# Altium footprint library D-PAK.PcbLib: 27 footprints (part 2 of 2)
Each footprint in its own frame and in the unit in brackets; x right, y up, seen from the top. Pads: shape width x height; smd on the part's side, far side on the other; paste and mask are expansions set on the pad; w line width, h text height; cw(c..) or ccw(c..) is an arc to the next point about the centre after c.
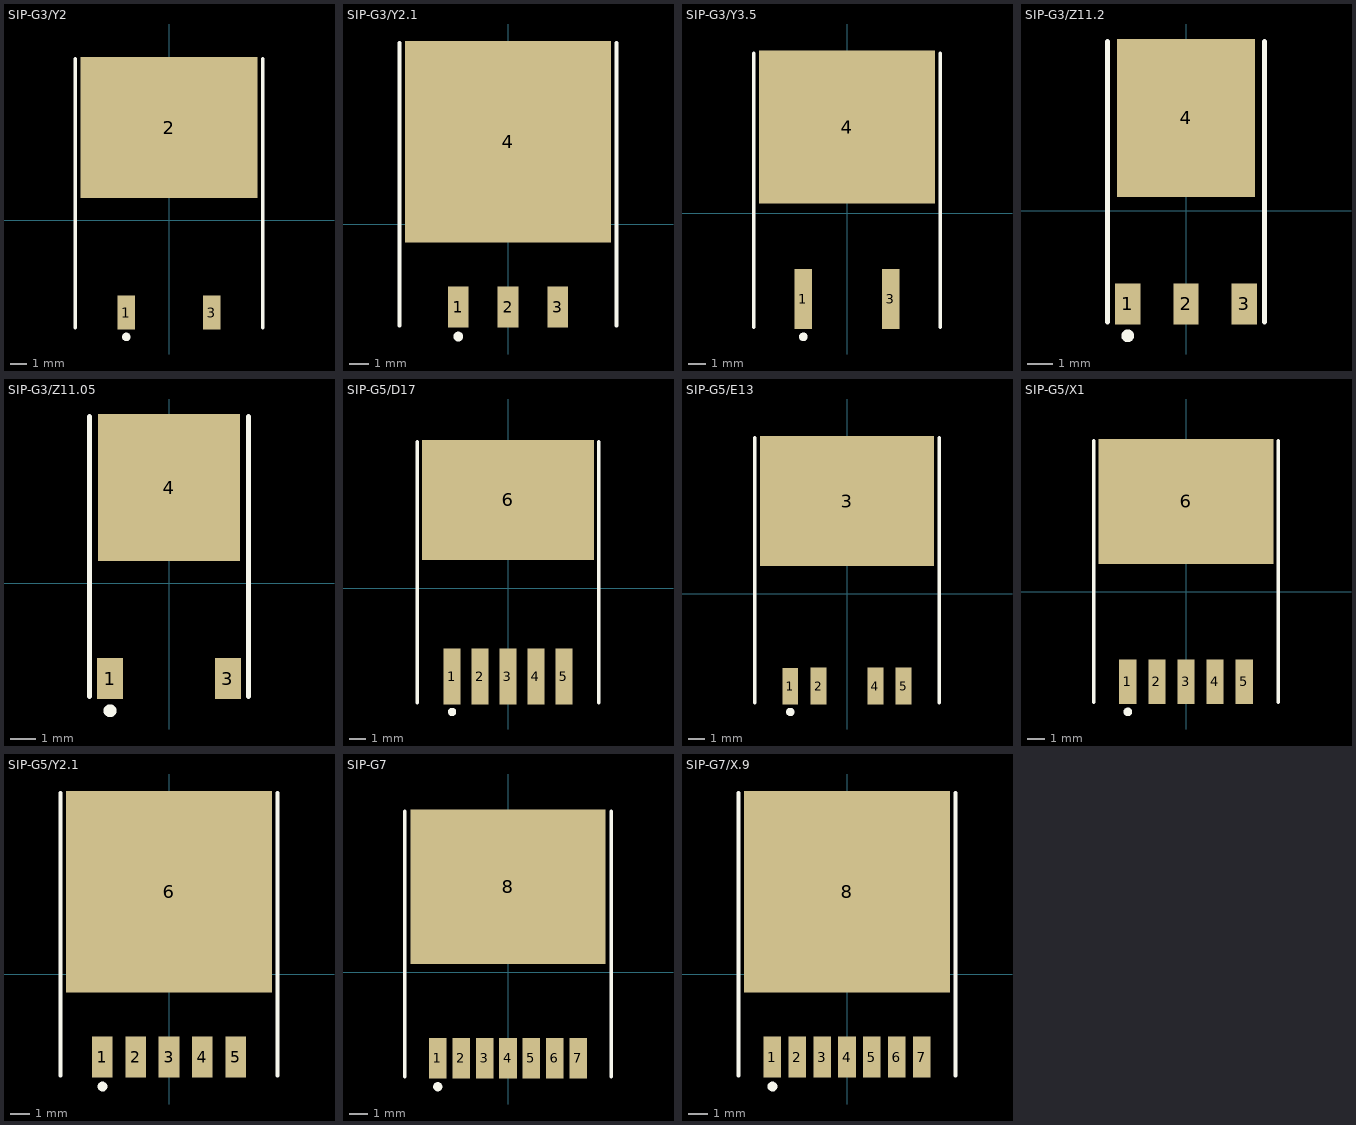
[diagram p1: the footprints below, top view; thin cyan lines are the x and y axes]

## SIP-G3/Y2 [mm] "D2-PAK/TO-263-AB; 3 Leads (1 Cropped); Body 15.5 (inc. leads) x 10.5 mm (LxW max)"
height 4.69
pads (3):
  rect 1.05x2 smd: 1(-2.54,-5.5) 3(2.54,-5.5)
  rect 10.55x8.4 smd: 2(0,5.5)
Top Overlay:
  circle w0.25: c-2.54,-6.95 r0.125
  lines w0.2: -5.575,-6.4 -5.575,9.6 ; 5.575,-6.4 5.575,9.6

## SIP-G3/Y2.1 [mm] "D2-PAK; 3 Leads; Body 14.4 (inc. leads) x 10.4 mm (LxW max)"
height 4.65
pads (4):
  rect 1.05x2.1 smd: 1(-2.54,-4.225) 2(0,-4.225) 3(2.54,-4.225)
  rect 10.5x10.3 smd: 4(0,4.225)
Top Overlay:
  circle w0.25: c-2.54,-5.725 r0.125
  lines w0.2: -5.55,-5.175 -5.55,9.275 ; 5.55,-5.175 5.55,9.275

## SIP-G3/Y3.5 [mm] "D2-PAK/TO-263-AB; 3 Leads (1 Cropped); Body 15.4 (inc. leads) x 10.3 mm (LxW max)"
height 4.5
pads (3):
  rect 1x3.5 smd: 1(-2.54,-4.975) 3(2.54,-4.975)
  rect 10.25x8.9 smd: 4(0,5.023)
Top Overlay:
  circle w0.25: c-2.54,-7.175 r0.125
  lines w0.2: -5.425,-6.625 -5.425,9.325 ; 5.425,-6.625 5.425,9.325

## SIP-G3/Z11.2 [mm] "D-PAK/TO-252-AA; 3 Leads (1 Cropped); Body 10.4 (inc. leads) x 6.7 mm (LxW max)"
height 2.38
pads (4):
  rect 1x1.6 smd: 1(-2.285,-3.65) 2(0,-3.65) 3(2.285,-3.65)
  rect 5.4x6.2 smd: 4(0,3.65)
Top Overlay:
  circle w0.25: c-2.285,-4.9 r0.125
  lines w0.2: -3.085,-4.35 -3.085,6.65 ; 3.085,-4.35 3.085,6.65

## SIP-G3/Z11.05 [mm] "D-PAK/TO-252-AA; 3 Leads (1 Cropped); Body 10.3 (inc. leads) x 6.7 mm (LxW max)"
height 2.38
pads (3):
  rect 1x1.6 smd: 1(-2.285,-3.7) 3(2.285,-3.7)
  rect 5.5x5.7 smd: 4(0,3.7)
Top Overlay:
  circle w0.25: c-2.285,-4.95 r0.125
  lines w0.2: -3.085,-4.4 -3.085,6.45 ; 3.085,-4.4 3.085,6.45

## SIP-G5/D17 [mm] "D2-PAK; 5 Leads; Body 15.4 (inc. leads) x 10.4 mm (LxW max)"
height 4.65
pads (6):
  rect 1.05x3.4 smd: 1(-3.4,-5.375) 2(-1.7,-5.375) 3(0,-5.375) 4(1.7,-5.375) 5(3.4,-5.375)
  rect 10.45x7.3 smd: 6(0,5.375)
Top Overlay:
  circle w0.25: c-3.4,-7.525 r0.125
  lines w0.2: -5.525,-6.975 -5.525,8.925 ; 5.525,-6.975 5.525,8.925

## SIP-G5/E13 [mm] "D2-PAK; 5 Leads (1 Cropped); Body 15.3 (inc. leads) x 10.4 mm (LxW max)"
height 4.55
pads (5):
  rect 0.95x2.2 smd: 1(-3.4,-5.55) 2(-1.7,-5.55) 4(1.7,-5.55) 5(3.4,-5.55)
  rect 10.45x7.8 smd: 3(0,5.55)
Top Overlay:
  circle w0.25: c-3.4,-7.1 r0.125
  lines w0.2: -5.525,-6.55 -5.525,9.35 ; 5.525,-6.55 5.525,9.35

## SIP-G5/X1 [mm] "D2-PAK; 5 Leads; Body 14.7 (inc. leads) x 10.2 mm (LxW max)"
height 4.58
pads (6):
  rect 1x2.6 smd: 1(-3.4,-5.275) 2(-1.7,-5.275) 3(0,-5.275) 4(1.7,-5.275) 5(3.4,-5.275)
  rect 10.2x7.3 smd: 6(0,5.275)
Top Overlay:
  circle w0.25: c-3.4,-7.025 r0.125
  lines w0.2: -5.4,-6.475 -5.4,8.825 ; 5.4,-6.475 5.4,8.825

## SIP-G5/Y2.1 [mm] "D2-PAK; 5 Leads; Body 14.4 (inc. leads) x 10.4 mm (LxW max)"
height 4.65
pads (6):
  rect 1.05x2.1 smd: 1(-3.4,-4.225) 2(-1.7,-4.225) 3(0,-4.225) 4(1.7,-4.225) 5(3.4,-4.225)
  rect 10.5x10.3 smd: 6(0,4.225)
Top Overlay:
  circle w0.25: c-3.4,-5.725 r0.125
  lines w0.2: -5.55,-5.175 -5.55,9.275 ; 5.55,-5.175 5.55,9.275

## SIP-G7 [mm] "D2-PAK; 7 Leads; Body 13.9 (inc. leads) x 10.6 mm (LxW max)"
height 4.65
pads (8):
  rect 0.95x2.2 smd: 1(-3.81,-4.65) 2(-2.54,-4.65) 3(-1.27,-4.65) 4(0,-4.65) 5(1.27,-4.65) 6(2.54,-4.65) 7(3.81,-4.65)
  rect 10.6x8.4 smd: 8(0,4.65)
Top Overlay:
  circle w0.25: c-3.81,-6.2 r0.125
  lines w0.2: -5.6,-5.65 -5.6,8.75 ; 5.6,-5.65 5.6,8.75

## SIP-G7/X.9 [mm] "D2-PAK; 7 Leads; Body 14.4 (inc. leads) x 10.4 mm (LxW max)"
height 4.65
pads (8):
  rect 0.9x2.1 smd: 1(-3.81,-4.225) 2(-2.54,-4.225) 3(-1.27,-4.225) 4(0,-4.225) 5(1.27,-4.225) 6(2.54,-4.225) 7(3.81,-4.225)
  rect 10.5x10.3 smd: 8(0,4.225)
Top Overlay:
  circle w0.25: c-3.81,-5.725 r0.125
  lines w0.2: -5.55,-5.175 -5.55,9.275 ; 5.55,-5.175 5.55,9.275